# EAGLE library part CON-12P-2_54MM-141V (library SamacSys_Parts)
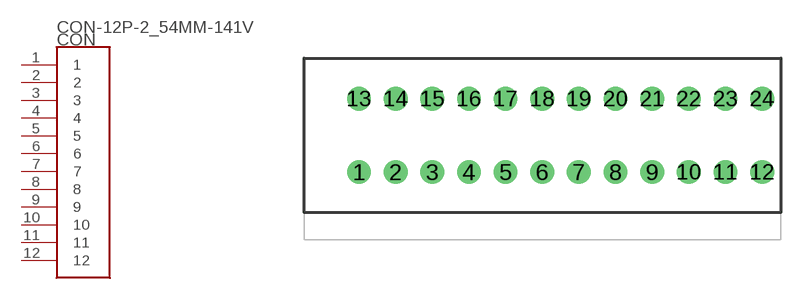
[diagram p30: symbol with the pads of CON-12P-2_54MM-141V; footprint CON-12P-2_54MM-141V]

Designator prefix CON

## CON-12P-2_54MM-141V  [CON-12P-2_54MM-141V]
1  1
2  2
3  3
4  4
5  5
6  6
7  7
8  8
9  9
10  10
11  11
12  12

## Footprint CON-12P-2_54MM-141V (pad centres in mm)
825433-5
drill 1.1 pad 1.65: 1 -13.97,-2.54; 2 -11.43,-2.54; 3 -8.89,-2.54; 4 -6.35,-2.54; 5 -3.81,-2.54; 6 -1.27,-2.54; 7 1.27,-2.54; 8 3.81,-2.54; 9 6.35,-2.54; 10 8.89,-2.54; 11 11.43,-2.54; 12 13.97,-2.54; 13 -13.97,2.54; 14 -11.43,2.54; 15 -8.89,2.54; 16 -6.35,2.54; 17 -3.81,2.54; 18 -1.27,2.54; 19 1.27,2.54; 20 3.81,2.54; 21 6.35,2.54; 22 8.89,2.54; 23 11.43,2.54; 24 13.97,2.54